# Altium footprint library TDA06H0SB1.PcbLib: 2 footprints
Each footprint in its own frame and in the unit in brackets; x right, y up, seen from the top. Pads: shape width x height; smd on the part's side, far side on the other; paste and mask are expansions set on the pad; w line width, h text height; cw(c..) or ccw(c..) is an arc to the next point about the centre after c.
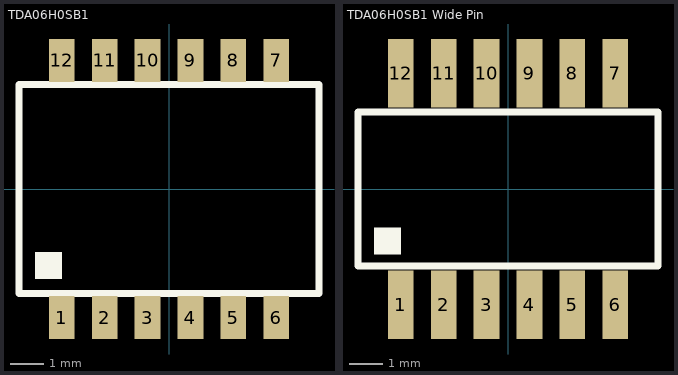
[diagram p0: the footprints below, top view; thin cyan lines are the x and y axes]

## TDA06H0SB1 [mil] "C&K TDA06H0SB1 SPST Half Pitch (1.27mm) DIP Switch"
height 90
pads (12):
  rect 30x50 smd: 1(-125,-150) 2(-75,-150) 3(-25,-150) 4(25,-150) 5(75,-150) 6(125,-150) 7(125,150) 8(75,150) 9(25,150) 10(-25,150) 11(-75,150) 12(-125,150)
Top Overlay:
  rectangle: -156.5,-105 -125,-73.5
  lines w8: -175,-122 -175,122 175,122 175,-122 -175,-122
3D body: height 60, standoff 10, extent -175,-120 175,120

## TDA06H0SB1 Wide Pin [mil] "C&K TDA06H0SB1 (Fits OMRON A6H-6101) SPST Half Pitch (1.27mm) DIP Switch"
height 90
pads (12):
  rect 30x80 smd: 1(-125,-135) 2(-75,-135) 3(-25,-135) 4(25,-135) 5(75,-135) 6(125,-135) 7(125,135) 8(75,135) 9(25,135) 10(-25,135) 11(-75,135) 12(-125,135)
Top Overlay:
  rectangle: -156.5,-76.5 -125,-45
  lines w8: -175,-90 175,-90 175,90 -175,90 -175,-90
3D body: height 60, standoff 10, extent -175,-90 175,90